# Altium footprint library XDCR_CPI-148-24-90T-67.PcbLib: 1 footprints
Each footprint in its own frame and in the unit in brackets; x right, y up, seen from the top. Pads: shape width x height; smd on the part's side, far side on the other; paste and mask are expansions set on the pad; w line width, h text height; cw(c..) or ccw(c..) is an arc to the next point about the centre after c.
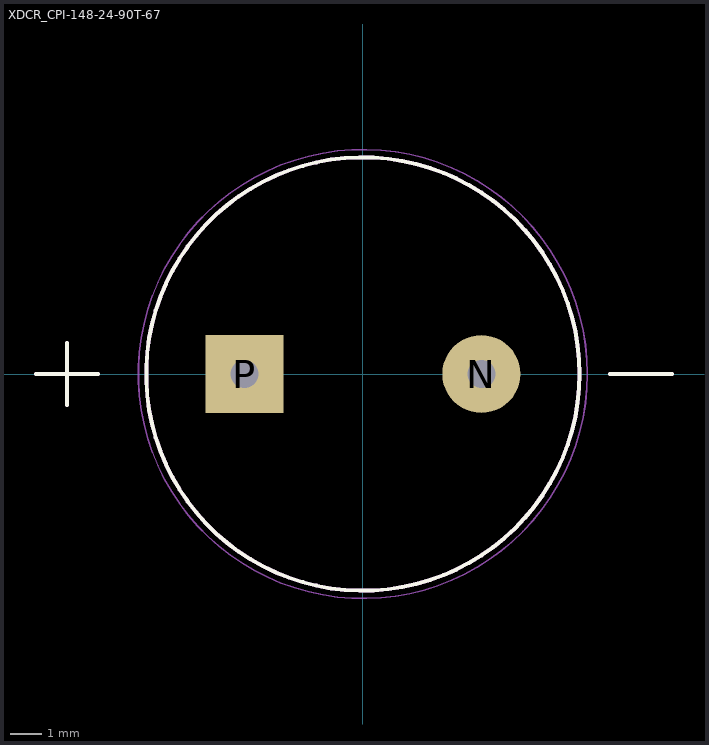
[diagram p0: the footprint, top view; thin cyan lines are the x and y axes]

## XDCR_CPI-148-24-90T-67 [mm]
height 7.5
pads (2):
  round 2.5 hole 0.9: N(3.8,0)
  rect 2.5x2.5 / inner round 2.5 / far side rect 2.5x2.5 hole 0.9: P(-3.8,0)
Top Overlay:
  circle w0.127: c0,0 r6.95
  lines w0.127: -10.49,0 -8.49,0 ; -9.49,-1 -9.49,1 ; 7.92,0 9.92,0
Assembly Top:
  circle w0.127: c0,0 r6.95
  lines w0.127: -10.49,0 -8.49,0 ; -9.49,-1 -9.49,1 ; 7.92,0 9.92,0
Courtyard Top:
  circle w0.05: c0,0 r7.2
3D body "step_temp.STEP": height 7.5, standoff -5.6, extent -6.95,-6.95 6.95,6.95